# Altium footprint library gfl.PcbLib: 31 footprints (part 1 of 2)
Each footprint in its own frame and in the unit in brackets; x right, y up, seen from the top. Pads: shape width x height; smd on the part's side, far side on the other; paste and mask are expansions set on the pad; w line width, h text height; cw(c..) or ccw(c..) is an arc to the next point about the centre after c.
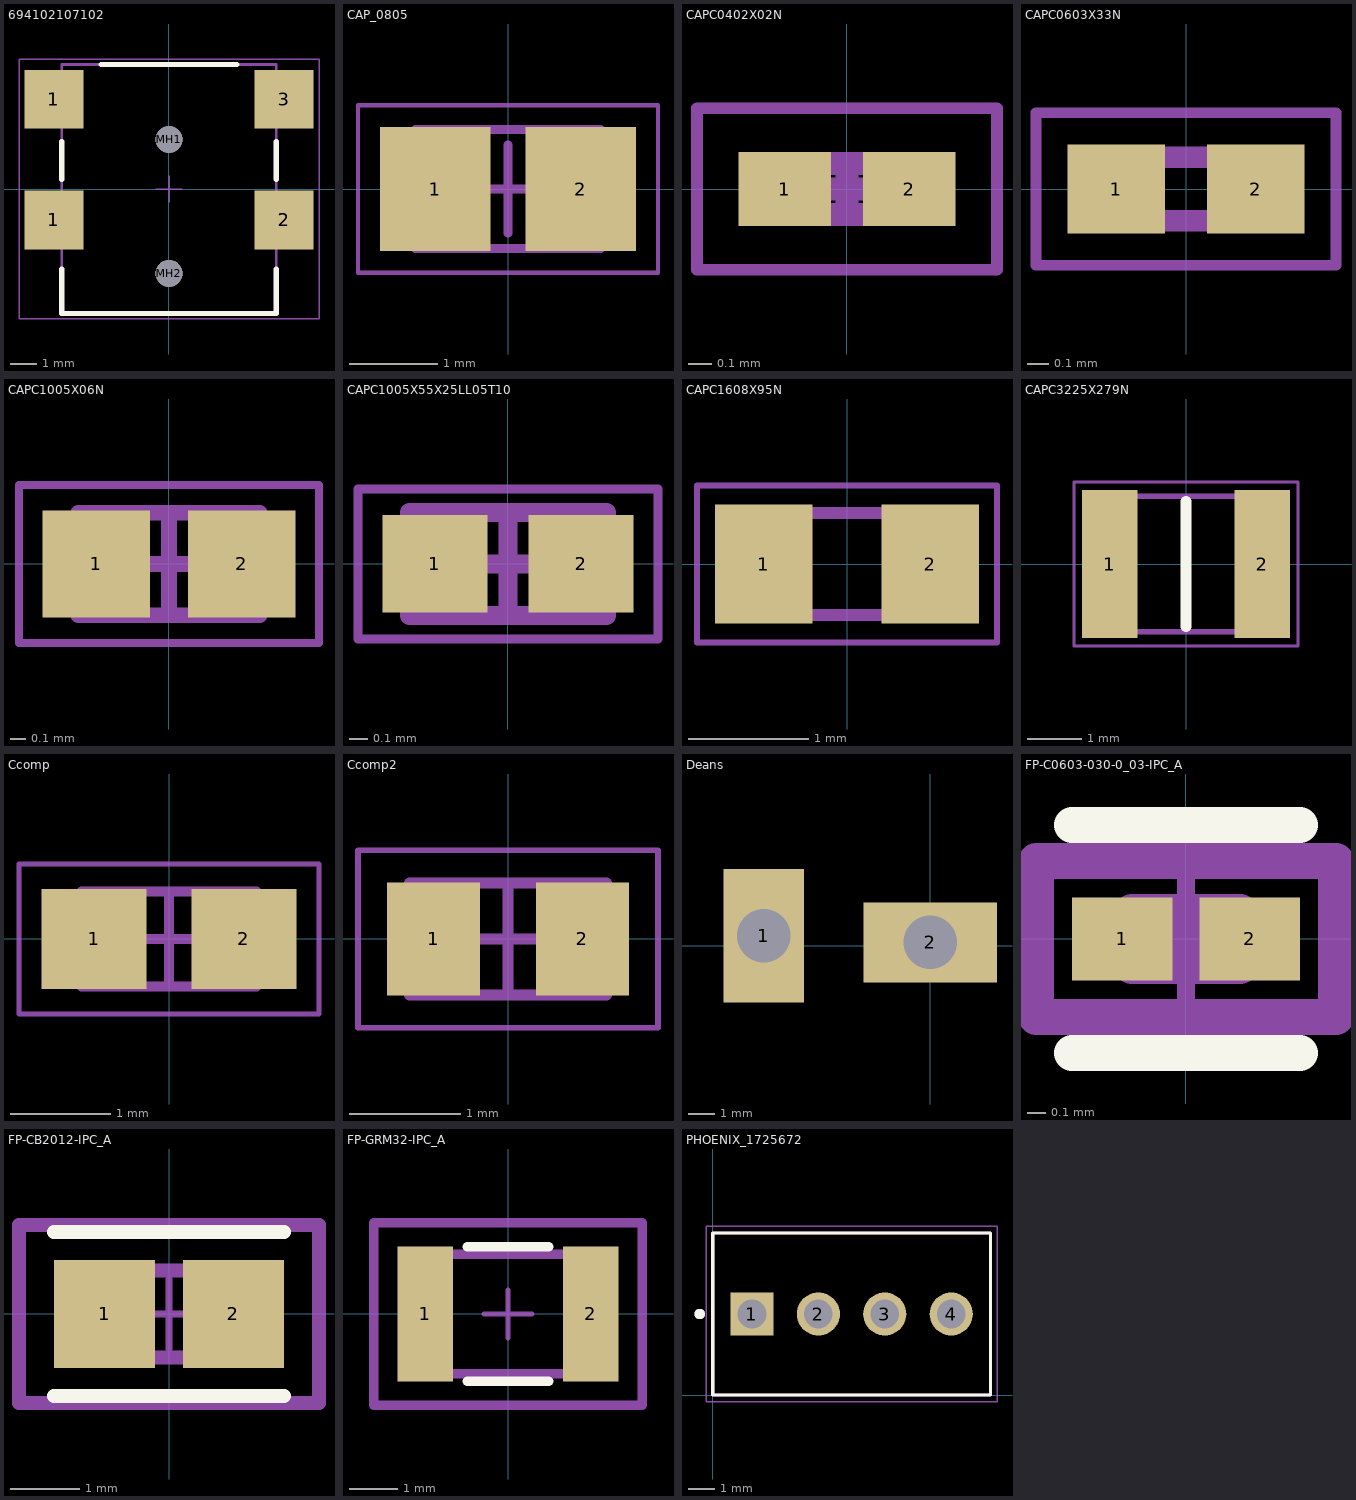
[diagram p0: the footprints below, top view; thin cyan lines are the x and y axes]

## 200mOhm [mm]

## 694102107102 [mm] "DC Power Jack Right Angled Low Profile SMT ?3.9 with 4 soldering pads & pegs"
height 5.3
pads (6):
  rect 2.2x2.2 smd: 1(-4.3,-1.15) 1(-4.3,3.35) 2(4.3,-1.15) 3(4.3,3.35)
  round 1 hole 1 unplated: MH1(0,1.85) MH2(0,-3.15)
Top Overlay:
  lines w0.2: -4,-2.999 -4,-4.65 4,-4.65 4,-2.999 ; -4,0.368 -4,1.765 ; -2.54,4.65 2.54,4.65 ; 4,0.368 4,1.765
Top Courtyard:
  lines w0.05: -0.5,0 0.5,0 ; 0,-0.5 0,0.5 ; -5.6,-4.85 -5.6,4.85 5.6,4.85 5.6,-4.85 -5.6,-4.85
Top 3D Body:
  lines w0.1: -4,-1.95 -4.9,-1.95 -4.9,-0.35 -4,-0.35 ; -4,2.55 -4.9,2.55 -4.9,4.15 -4,4.15 ; 4,-1.95 4.9,-1.95 4.9,-0.35 4,-0.35 ; 4,2.55 4.9,2.55 4.9,4.15 4,4.15 ; -4,-4.65 4,-4.65 4,4.65 -4,4.65 -4,-4.65
Top Designator:
  text ".Designator" at -7.498,-0.5 h1.5
Top Component Outline:
  lines w0.1: -4,-1.95 -4.9,-1.95 -4.9,-0.35 -4,-0.35 ; -4,2.55 -4.9,2.55 -4.9,4.15 -4,4.15 ; 4,-1.95 4.9,-1.95 4.9,-0.35 4,-0.35 ; 4,2.55 4.9,2.55 4.9,4.15 4,4.15 ; -4,-4.65 -4,4.65 4,4.65 4,-4.65 -4,-4.65
3D body "694102107102.stp": height 5.32, standoff -0.78, extent -4.9,-4.65 4.9,4.65

## CAP_0805 [mm] "Chip Capacitor, 2-Leads, Body 2.00x1.25mm, IPC Medium Density"
height 1.35
pads (2):
  rect 1.25x1.4 smd: 1(-0.825,0) 2(0.825,0)
Mechanical 13:
  lines w0.1: -1.05,-0.675 -1.05,0.675 1.05,0.675 1.05,-0.675 -1.05,-0.675
Mechanical 15:
  lines w0.05: -1.7,-0.95 -1.7,0.95 1.7,0.95 1.7,-0.95 -1.7,-0.95
  lines w0.1: -0.5,0 0.5,0 ; 0,-0.5 0,0.5
3D body "CAP_0805.step": height 1.35, standoff 0, extent -1.05,-0.675 1.05,0.675

## CAPC0402X02N [mm] "Chip Capacitor, 2-Leads, Body 0.40x0.20mm, IPC Medium Density"
height 0.22
pads (2):
  rect 0.4x0.32 smd: 1(-0.27,0) 2(0.27,0)
Top Courtyard:
  lines w0.05: -0.65,-0.35 -0.65,0.35 0.65,0.35 0.65,-0.35 -0.65,-0.35
  lines w0.1: -0.11,0 0.11,0 ; 0,-0.11 0,0.11
Mechanical 13:
  lines w0.1: -0.21,-0.11 -0.21,0.11 0.21,0.11 0.21,-0.11 -0.21,-0.11
3D body: height 0.22, standoff 0, extent -0.14,-0.11 0.14,0.11
3D body: height 0.22, standoff 0, extent -0.21,-0.11 -0.14,0.11
3D body: height 0.22, standoff 0, extent 0.14,-0.11 0.21,0.11

## CAPC0603X33N [mm]
pads (2):
  rect 0.46x0.42 smd: 1(-0.33,0) 2(0.33,0)
Mechanical 15:
  lines w0.1: -0.3,-0.15 0.3,-0.15 0.3,0.15 -0.3,0.15 -0.3,-0.15
Mechanical 20:
  lines w0.05: -0.71,-0.36 0.71,-0.36 0.71,0.36 -0.71,0.36 -0.71,-0.36
3D body "GRM033C71C104KE14J.stp": height 0.33, standoff 0, extent -0.3,-0.15 0.3,0.15

## CAPC1005X06N [mm] "Chip Capacitor, 2-Leads, Body 1.00x0.50mm, IPC Medium Density"
height 0.65
pads (2):
  rect 0.68x0.68 smd: 1(-0.46,0) 2(0.46,0)
Top Courtyard:
  lines w0.05: -0.95,-0.5 -0.95,0.5 0.95,0.5 0.95,-0.5 -0.95,-0.5
  lines w0.1: -0.325,0 0.325,0 ; 0,-0.325 0,0.325
Mechanical 13:
  lines w0.1: -0.575,-0.325 -0.575,0.325 0.575,0.325 0.575,-0.325 -0.575,-0.325
3D body: height 0.65, standoff 0, extent -0.325,-0.325 0.325,0.325
3D body: height 0.65, standoff 0, extent -0.575,-0.325 -0.325,0.325
3D body: height 0.65, standoff 0, extent 0.325,-0.325 0.575,0.325

## CAPC1005X55X25LL05T10 [mm] "Chip Capacitor, 2-Leads, Body 1.05x0.55mm, IPC High Density"
height 0.55
pads (2):
  rect 0.56x0.52 smd: 1(-0.39,0) 2(0.39,0)
Mechanical 13:
  lines w0.1: -0.525,-0.275 0.525,-0.275 0.525,0.275 -0.525,0.275 -0.525,-0.275
Mechanical 15:
  lines w0.05: -0.8,-0.4 0.8,-0.4 0.8,0.4 -0.8,0.4 -0.8,-0.4
  lines w0.1: -0.275,0 0.275,0 ; 0,-0.275 0,0.275
3D body "CAPC1005X06L.step": height 0.55, standoff 0, extent -0.525,-0.275 0.525,0.275

## CAPC1608X95N [mm]
pads (2):
  rect 0.81x0.99 smd: 1(-0.69,0) 2(0.69,0)
Mechanical 13:
  lines w0.1: -0.825,-0.425 -0.825,0.425 0.825,0.425 0.825,-0.425 -0.825,-0.425
Mechanical 15:
  lines w0.05: -1.245,-0.65 -1.245,0.65 1.245,0.65 1.245,-0.65 -1.245,-0.65
3D body "EMK107B7104KA-T.stp": height 0.95, standoff 0, extent -0.825,-0.425 0.825,0.425

## CAPC3225X279N [mm]
pads (2):
  rect 1.02x2.72 smd: 1(-1.4,0) 2(1.4,0)
Top Overlay:
  lines w0.2: 0,-1.15 0,1.15
Mechanical 15:
  lines w0.1: -1.6,-1.25 -1.6,1.25 1.6,1.25 1.6,-1.25 -1.6,-1.25
Mechanical 20:
  lines w0.05: -2.06,-1.51 -2.06,1.51 2.06,1.51 2.06,-1.51 -2.06,-1.51
3D body "1210YD107MAT2A.stp": height 2.79, standoff 0, extent -1.6,-1.25 1.6,1.25

## Ccomp [mm]
height 0.9
pads (2):
  rect 1.05x1 smd: 1(-0.75,0) 2(0.75,0)
Top Courtyard:
  lines w0.05: -1.5,-0.75 -1.5,0.75 1.5,0.75 1.5,-0.75 -1.5,-0.75
  lines w0.1: -0.475,0 0.475,0 ; 0,-0.475 0,0.475
Mechanical 13:
  lines w0.1: -0.875,-0.475 -0.875,0.475 0.875,0.475 0.875,-0.475 -0.875,-0.475
3D body: height 0.9, standoff 0, extent -0.525,-0.475 0.525,0.475
3D body: height 0.9, standoff 0, extent -0.875,-0.475 -0.525,0.475
3D body: height 0.9, standoff 0, extent 0.525,-0.475 0.875,0.475

## Ccomp2 [mm]
height 0.91
pads (2):
  rect 0.84x1.02 smd: 1(-0.67,0) 2(0.67,0)
Top Courtyard:
  lines w0.05: -1.35,-0.8 -1.35,0.8 1.35,0.8 1.35,-0.8 -1.35,-0.8
  lines w0.1: -0.5,0 0.5,0 ; 0,-0.5 0,0.5
Mechanical 13:
  lines w0.1: -0.885,-0.505 -0.885,0.505 0.885,0.505 0.885,-0.505 -0.885,-0.505
3D body: height 0.91, standoff 0, extent -0.635,-0.505 0.635,0.505
3D body: height 0.91, standoff 0, extent -0.885,-0.505 -0.635,0.505
3D body: height 0.91, standoff 0, extent 0.635,-0.505 0.885,0.505

## Deans [mm]
pads (2):
  rect 3x5 hole 2 square: 1(-6.223,0.381)
  rect 5x3 hole 2 square: 2(0,0.127)
3D body "PRT-11864.stp": height 4.2, standoff -46.38, extent -9.6,-3.3 4.769,5.011

## FP-C0603-030-0_03-IPC_A [mm]
pads (2):
  rect 0.556x0.463 smd paste+0 mask+0: 1(-0.353,0) 2(0.353,0)
Top Overlay:
  lines w0.2: -0.631,-0.631 0.631,-0.631 ; -0.631,0.631 0.631,0.631
Top Courtyard:
  lines w0.2: -0.831,-0.431 0.831,-0.431 0.831,0.431 -0.831,0.431 -0.831,-0.431
Top 3D Body:
  lines w0.2: -0.3,-0.15 0.3,-0.15 0.3,0.15 -0.3,0.15 -0.3,-0.15
Top Assembly:
  lines w0.2: -0.831,-0.431 0.831,-0.431 0.831,0.431 -0.831,0.431 -0.831,-0.431
  text ".Designator" at 0,0.188 h1
Top Component Center:
  lines w0.1: -0.5,0 0.5,0 ; 0,-0.5 0,0.5
3D body "Cap_TDK_C0603X6S0G474M030BC_eec.STEP": height 0.25, standoff 0, extent -0.831,-0.431 0.831,0.431

## FP-CB2012-IPC_A [mm]
pads (2):
  rect 1.455x1.556 smd paste+0 mask+0: 1(-0.926,0) 2(0.926,0)
Top Overlay:
  lines w0.2: -1.653,-1.178 1.653,-1.178 ; -1.653,1.178 1.653,1.178
Top Courtyard:
  lines w0.2: -2.153,-1.278 -2.153,1.278 2.153,1.278 2.153,-1.278 -2.153,-1.278
Top 3D Body:
  lines w0.2: -1,-0.625 -1,0.625 1,0.625 1,-0.625 -1,-0.625
Top Assembly:
  lines w0.2: -2.153,-1.278 -2.153,1.278 2.153,1.278 2.153,-1.278 -2.153,-1.278
  text ".Designator" at 0,0.188 h1
Top Component Center:
  lines w0.1: -0.5,0 0.5,0 ; 0,-0.5 0,0.5
3D body "Ind_Taiyo_Yuden_CBC2012T4R7M8_eec.STEP": height 0.25, standoff 0, extent -2.153,-1.278 2.153,1.278

## FP-GRM32-IPC_A [mm]
pads (2):
  rect 1.154x2.806 smd paste+0 mask+0: 1(-1.725,0) 2(1.725,0)
Top Overlay:
  lines w0.2: -0.848,-1.403 0.848,-1.403 ; -0.848,1.403 0.848,1.403
Top Courtyard:
  lines w0.2: -2.802,-1.903 2.802,-1.903 2.802,1.903 -2.802,1.903 -2.802,-1.903
Top 3D Body:
  lines w0.2: -1.6,-1.25 1.6,-1.25 1.6,1.25 -1.6,1.25 -1.6,-1.25
Top Assembly:
  lines w0.2: -2.802,-1.903 2.802,-1.903 2.802,1.903 -2.802,1.903 -2.802,-1.903
  text ".Designator" at 0,0.188 h1
Top Component Center:
  lines w0.1: -0.5,0 0.5,0 ; 0,-0.5 0,0.5
3D body "Cap_Murata_GRM32ER71A476ME15L_eec.STEP": height 0.25, standoff 0, extent -2.802,-1.903 2.802,1.903

## PHOENIX_1725672 [mm]
height 8.65
pads (4):
  rect 1.65x1.65 / inner round 1.65 / far side rect 1.65x1.65 hole 1.1: 1(1.5,3.1)
  round 1.65 hole 1.1: 2(4.04,3.1) 3(6.58,3.1) 4(9.12,3.1)
Top Overlay:
  circle w0.2: c-0.5,3.1 r0.1
  lines w0.127: 0,0 0,6.2 10.62,6.2 10.62,0 0,0
Mechanical 13:
  circle w0.2: c-0.5,3.1 r0.1
  lines w0.127: 0,0 0,6.2 10.62,6.2 10.62,0 0,0
Mechanical 15:
  lines w0.05: -0.25,-0.25 -0.25,6.45 10.87,6.45 10.87,-0.25 -0.25,-0.25
3D body "1725672.step": height 8.5, standoff -3.5, extent -0.08,0 10.6,6.2